# EAGLE library part DISP-CA25-12GWA (library Namenlos)
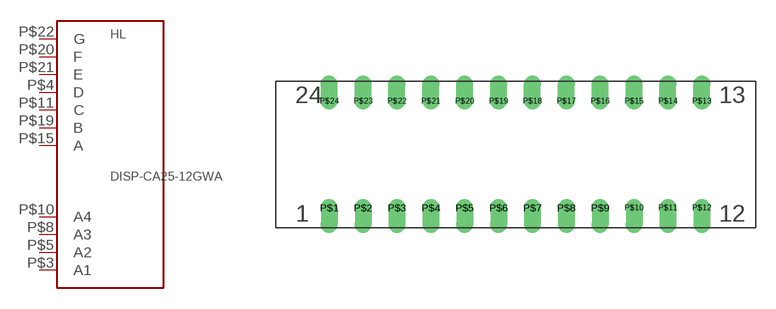
[diagram p16: symbol with the pads of CA25-12QWA; footprint CA25-12QWA]

Designator prefix HL

## DISP-CA25-12GWA  [CA25-12QWA]
P$3  A1
P$4  D
P$5  A2
P$8  A3
P$10  A4
P$11  C
P$15  A
P$19  B
P$20  F
P$21  E
P$22  G

## Footprint CA25-12QWA (pad centres in mm)
drill 0.5 pad 1.27 offset: P$1 -13.97,-4; P$2 -11.43,-4; P$3 -8.89,-4; P$4 -6.35,-4; P$5 -3.81,-4; P$6 -1.27,-4; P$7 1.27,-4; P$8 3.81,-4; P$9 6.35,-4; P$10 8.89,-4; P$11 11.43,-4; P$12 13.97,-4; P$13 13.97,4; P$14 11.43,4; P$15 8.89,4; P$16 6.35,4; P$17 3.81,4; P$18 1.27,4; P$19 -1.27,4; P$20 -3.81,4; P$21 -6.35,4; P$22 -8.89,4; P$23 -11.43,4; P$24 -13.97,4